# Altium footprint library PAL.PcbLib: 183 footprints (part 4 of 12)
Each footprint in its own frame and in the unit in brackets; x right, y up, seen from the top. Pads: shape width x height; smd on the part's side, far side on the other; paste and mask are expansions set on the pad; w line width, h text height; cw(c..) or ccw(c..) is an arc to the next point about the centre after c.
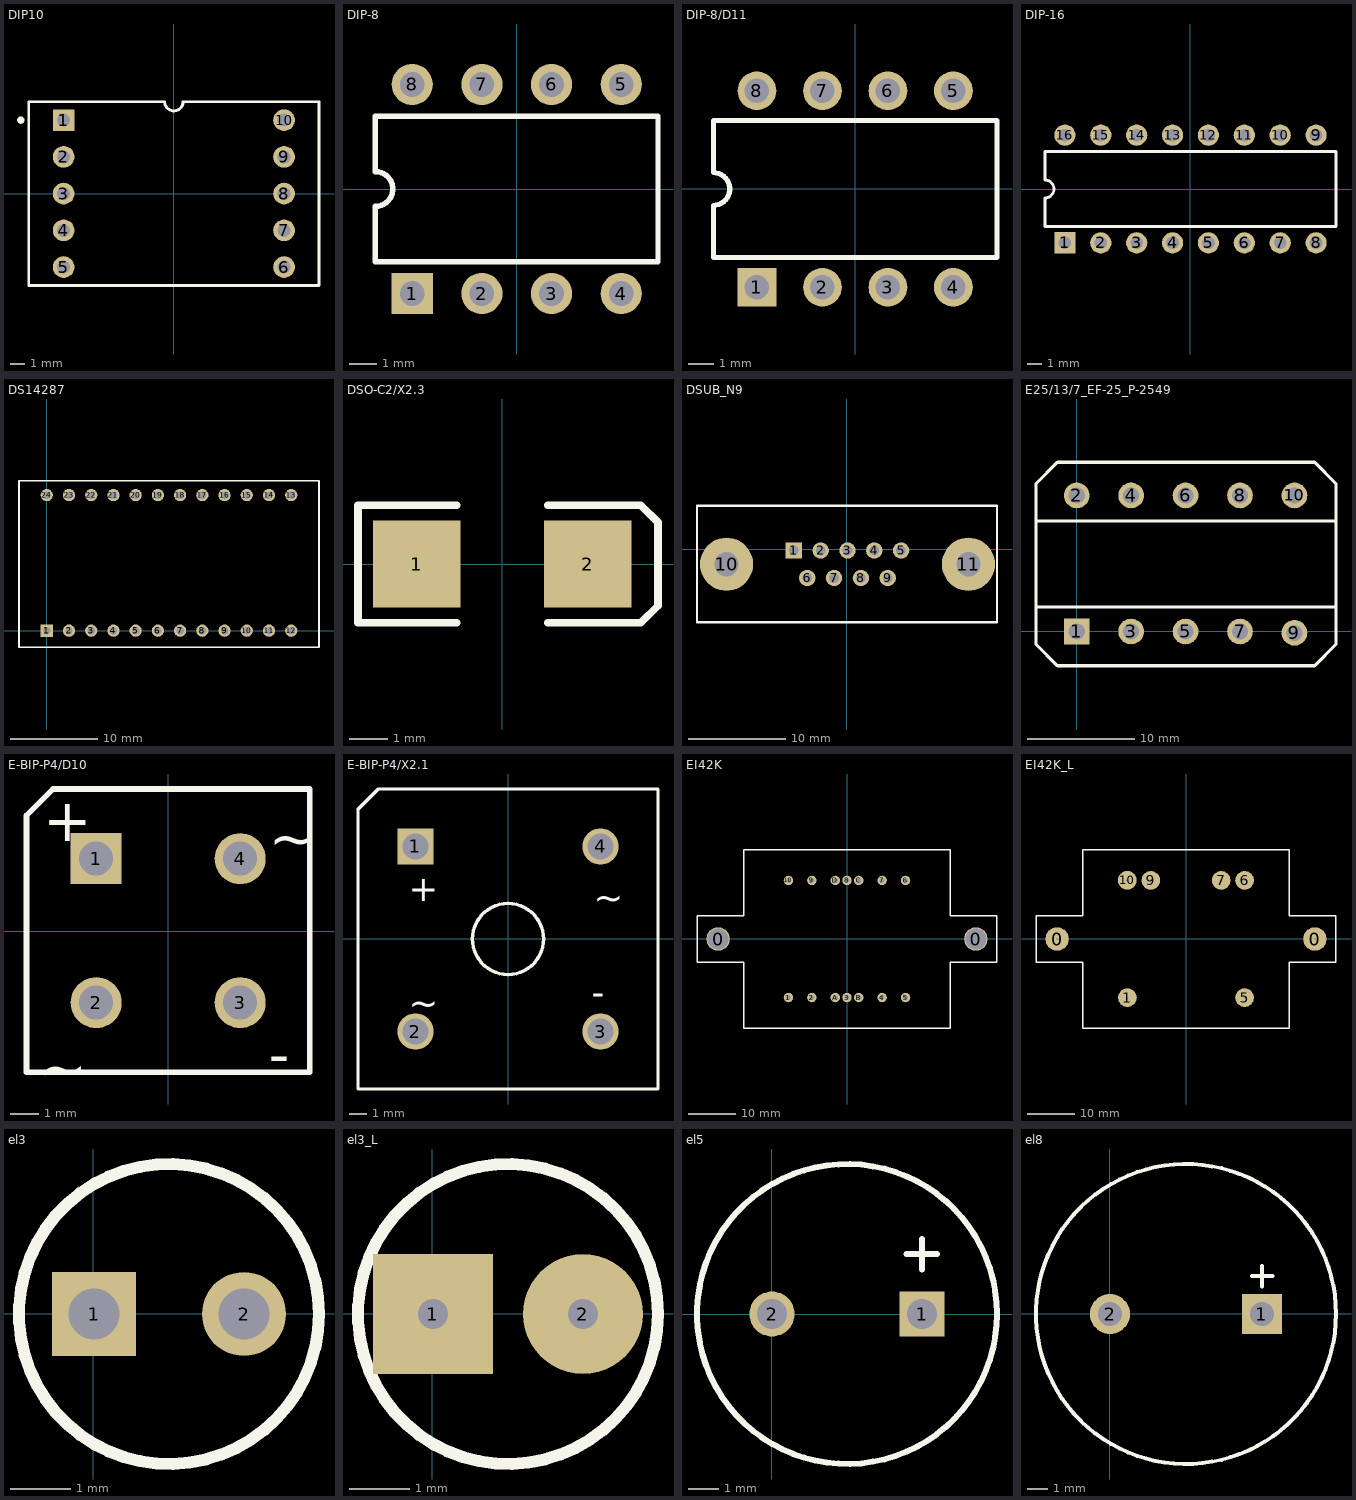
[diagram p3: the footprints below, top view; thin cyan lines are the x and y axes]

## DIP10 [mm]
pads (10):
  rect 1.5x1.5 hole 0.9: 1(-7.626,5.086)
  round 1.5 hole 0.9: 2(-7.626,2.546) 3(-7.626,0.006) 4(-7.626,-2.534) 5(-7.626,-5.074) 6(7.614,-5.074) 7(7.614,-2.534) 8(7.614,0.006) 9(7.614,2.546) 10(7.614,5.086)
Top Overlay:
  circle w0.25: c-10.588,5.084 r0.125
  lines w0.2: -10.041,-6.344 10.029,-6.344 10.029,6.356 0.629,6.356 cw(c-0.006,6.356) -0.641,6.356 -10.041,6.356 -10.041,-6.344

## DIP-8 [mm]
pads (8):
  rect 1.5x1.5 hole 0.9: 1(-3.817,-3.8)
  round 1.5 hole 0.9: 2(-1.277,-3.8) 3(1.263,-3.8) 4(3.803,-3.8) 5(3.803,3.82) 6(1.263,3.82) 7(-1.277,3.82) 8(-3.817,3.82)
Top Overlay:
  lines w0.2: -5.157,-2.64 -5.157,-0.625 ccw(c-5.157,0.01) -5.157,0.645 -5.157,2.66 5.143,2.66 5.143,-2.64 -5.157,-2.64

## DIP-8/D11 [mm]
pads (8):
  rect 1.5x1.5 hole 0.95: 1(-3.803,-3.816)
  round 1.5 hole 0.95: 2(-1.263,-3.816) 3(1.277,-3.816) 4(3.817,-3.816) 5(3.817,3.804) 6(1.277,3.804) 7(-1.263,3.804) 8(-3.803,3.804)
Top Overlay:
  lines w0.2: -5.493,-2.656 5.507,-2.656 5.507,2.644 -5.493,2.644 -5.493,0.629 cw(c-5.493,-0.006) -5.493,-0.641 -5.493,-2.656

## DIP-16 [mm]
pads (16):
  rect 1.5x1.5 hole 0.9: 1(-8.888,-3.802)
  round 1.5 hole 0.9: 2(-6.348,-3.802) 3(-3.808,-3.802) 4(-1.268,-3.802) 5(1.272,-3.802) 6(3.812,-3.802) 7(6.352,-3.802) 8(8.892,-3.802) 9(8.892,3.818) 10(6.352,3.818) 11(3.812,3.818) 12(1.272,3.818) 13(-1.268,3.818) 14(-3.808,3.818) 15(-6.348,3.818) 16(-8.888,3.818)
Top Overlay:
  lines w0.2: -10.298,-2.642 -10.298,-0.627 ccw(c-10.298,0.008) -10.298,0.643 -10.298,2.658 10.302,2.658 10.302,-2.642 -10.298,-2.642

## DS14287 [mm]
pads (24):
  rect 1.4x1.4 hole 0.85: 1(0.009,-0.011)
  round 1.4 hole 0.85: 2(2.549,-0.011) 3(5.089,-0.011) 4(7.629,-0.011) 5(10.169,-0.011) 6(12.709,-0.011) 7(15.249,-0.011) 8(17.789,-0.011) 9(20.329,-0.011) 10(22.869,-0.011) 11(25.409,-0.011) 12(27.949,-0.011) 13(27.949,15.483) 14(25.409,15.483) 15(22.869,15.483) 16(20.329,15.483) 17(17.789,15.483) 18(15.249,15.483) 19(12.709,15.483) 20(10.169,15.483) 21(7.629,15.483) 22(5.089,15.483) 23(2.549,15.483) 24(0.009,15.483)
Top Overlay:
  lines w0.2: -3.166,-1.916 -3.166,17.134 31.124,17.134 31.124,-1.916 0.009,-1.916 -3.166,-1.916

## DSO-C2/X2.3 [mm]
pads (2):
  rect 2.3x2.3 smd: 1(-2.252,0.001) 2(2.248,0.001)
Top Overlay:
  lines w0.2: -1.202,-1.549 -3.802,-1.549 -3.802,1.551 -1.202,1.551 ; 1.198,-1.549 3.638,-1.549 4.098,-1.099 4.098,1.101 3.648,1.551 ; 1.198,1.551 3.638,1.551

## DSUB_N9 [mm]
pads (11):
  rect 1.69x1.69 hole 1: 1(-5.481,-0.116)
  round 1.69 hole 1: 2(-2.711,-0.116) 3(0.059,-0.116) 4(2.829,-0.116) 5(5.599,-0.116) 6(-4.096,-2.956) 7(-1.326,-2.956) 8(1.444,-2.956) 9(4.214,-2.956)
  round 5.5 hole 2.5: 10(-12.436,-1.536) 11(12.554,-1.536)
Top Overlay:
  lines w0.254: -15.49,-7.512 15.41,-7.512 15.51,-7.512 15.51,4.488 0.01,4.488 -15.49,4.488 -15.49,-7.512

## E25/13/7_EF-25_P-2549 [mm]
pads (10):
  rect 2.4x2.4 hole 1.5: 1(0,0)
  round 2.4 hole 1.5: 2(0,12.7) 3(5.08,0) 4(5.08,12.7) 5(10.16,0) 6(10.16,12.7) 7(15.24,0) 8(15.24,12.7) 9(20.32,-0.125) 10(20.32,12.7)
Top Overlay:
  lines w0.3: -3.8,2.3 24.2,2.3 ; -3.8,10.3 24.1,10.3 ; -3.8,-1.2 -3.8,13.8 -1.8,15.8 22.2,15.8 24.2,13.8 24.2,-1.2 22.2,-3.2 -1.8,-3.2 -3.8,-1.2

## E-BIP-P4/D10 [mm]
pads (4):
  rect 1.8x1.8 hole 1.2: 1(-2.536,2.552)
  round 1.8 hole 1.2: 2(-2.536,-2.528) 3(2.544,-2.528) 4(2.544,2.552)
Top Overlay:
  lines w0.2: -4.996,-4.988 5.004,-4.988 5.004,5.012 -4.06,5.012 -4.996,4.076 -4.996,-4.988
  text "~" at 3.56,2.552 h1.5
  text "~" at -4.568,-5.576 h1.5
  text "-" at 3.56,-5.068 h1.5
  text "+" at -4.406,3.176 h1.5

## E-BIP-P4/X2.1 [mm]
pads (4):
  rect 2.1x2.1 hole 1.5: 1(-5.337,5.325)
  round 2.1 hole 1.5: 2(-5.337,-5.345) 3(5.333,-5.345) 4(5.333,5.325)
Top Overlay:
  circle w0.2: c-0.002,-0.01 r2.05
  lines w0.2: -8.652,-8.66 -8.652,7.464 -7.476,8.64 8.648,8.64 8.648,-8.66 -8.652,-8.66
  text "+" at -5.725,2.157 h1.5
  text "-" at 4.823,-3.819 h1.5
  text "~" at 4.943,1.649 h1.5
  text "~" at -5.725,-4.447 h1.5

## EI42K [mm]
pads (16):
  round 5 hole 4.5: 0(-27.504,-0.003) 0(27.496,-0.003)
  round 2 hole 1.1: 1(-12.504,-12.503) 2(-7.504,-12.503) 3(-0.004,-12.503) 4(7.496,-12.503) 5(12.496,-12.503) 6(12.496,12.497) 7(7.496,12.497) 8(-0.004,12.497) 9(-7.504,12.497) 10(-12.504,12.497) A(-2.504,-12.503) B(2.496,-12.503) C(2.496,12.497) D(-2.504,12.497)
Top Overlay:
  lines w0.3: -32.004,-5.003 -32.004,-0.003 -32.004,4.997 -22.004,4.997 -22.004,18.997 21.996,18.997 21.996,4.997 31.996,4.997 31.996,-0.003 31.996,-5.003 21.996,-5.003 21.996,-19.003 -22.004,-19.003 -22.004,-5.003 -32.004,-5.003

## EI42K_L [mm]
pads (8):
  round 5 hole 0.5: 0(-27.504,-0.003) 0(27.496,-0.003)
  round 4 hole 0.5 paste+0 mask+0.5: 1(-12.504,-12.503)
  round 4 hole 0.5: 5(12.496,-12.503) 6(12.496,12.497) 7(7.496,12.497) 9(-7.504,12.497) 10(-12.525,12.525)
Top Overlay:
  lines w0.3: -32.004,-5.003 -32.004,-0.003 -32.004,4.997 -22.004,4.997 -22.004,18.997 21.996,18.997 21.996,4.997 31.996,4.997 31.996,-0.003 31.996,-5.003 21.996,-5.003 21.996,-19.003 -22.004,-19.003 -22.004,-5.003 -32.004,-5.003

## el3 [mm]
pads (2):
  rect 1.4x1.4 hole 0.85: 1(0.011,-0.008)
  round 1.4 hole 0.85: 2(2.511,-0.008)
Top Overlay:
  circle w0.2: c1.261,-0.008 r2.5
  lines w0.3: -0.389,-0.008 0.411,-0.008 ; 0.011,-0.408 0.011,0.392

## el3_L [mm]
pads (2):
  rect 2x2 hole 0.5: 1(0.011,-0.008)
  round 2 hole 0.5: 2(2.511,-0.008)
Top Overlay:
  circle w0.2: c1.261,-0.008 r2.5
  lines w0.3: -0.389,-0.008 0.411,-0.008 ; 0.011,-0.408 0.011,0.392

## el5 [mm]
pads (2):
  rect 1.5x1.5 hole 1: 1(5.001,0.007)
  round 1.5 hole 1: 2(0.001,0.007)
Top Overlay:
  circle w0.2: c2.501,0.007 r5
  lines w0.2: 4.485,2.007 5.501,2.007 ; 5.001,1.491 5.001,2.507

## el8 [mm]
pads (2):
  rect 2x2 hole 1.2: 1(7.611,-0.011)
  round 2 hole 1.2: 2(0.011,-0.011)
Top Overlay:
  circle w0.2: c3.811,-0.011 r7.5
  lines w0.2: 7.111,1.889 8.127,1.889 ; 7.611,1.373 7.611,2.389